# Altium schematic symbol library TLV320AIC34.SchLib: 1 symbol
Pins are listed as number, name and electrical type; pins without a type are passive.

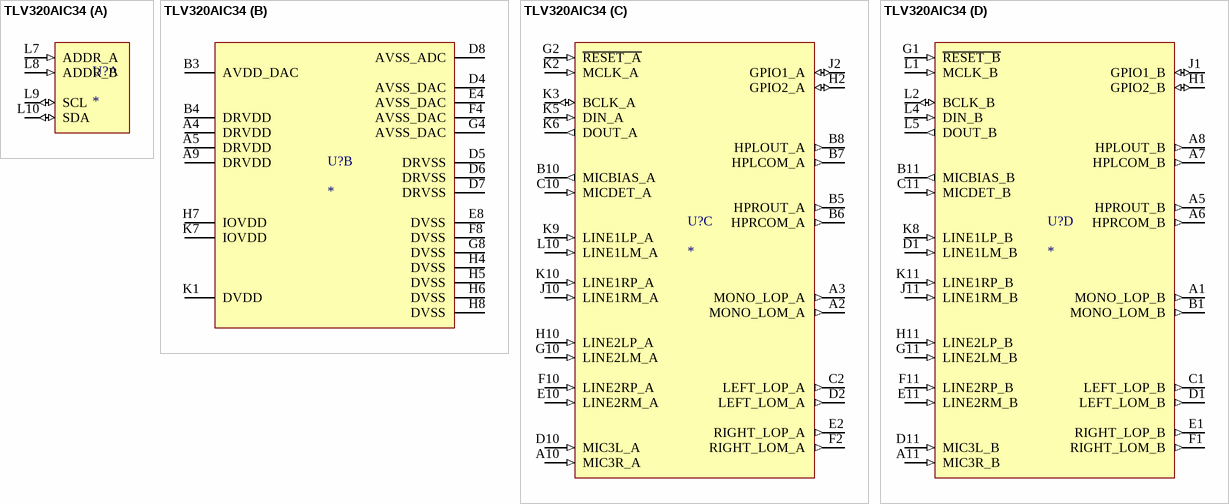
[diagram p0: symbol TLV320AIC34]

## TLV320AIC34
designator U?
TLV320AIC34
part A pins: L7 ADDR_A (in), L8 ADDR_B (in), L9 SCL (io), L10 SDA (io)
part B pins: A4 DRVDD (power), A5 DRVDD (power), A9 DRVDD (power), B3 AVDD_DAC (power), B4 DRVDD (power), D4 AVSS_DAC (power), D5 DRVSS (power), D6 DRVSS (power), D7 DRVSS (power), D8 AVSS_ADC (power), E4 AVSS_DAC (power), E8 DVSS (power), F4 AVSS_DAC (power), F8 DVSS (power), G4 AVSS_DAC (power), G8 DVSS (power), H4 DVSS (power), H5 DVSS (power), H6 DVSS (power), H7 IOVDD (power), H8 DVSS (power), K1 DVDD (power), K7 IOVDD (power)
part C pins: A2 MONO_LOM_A (out), A3 MONO_LOP_A (out), A10 MIC3R_A (in), B5 HPROUT_A (out), B6 HPRCOM_A (out), B7 HPLCOM_A (out), B8 HPLOUT_A (out), B10 MICBIAS_A (out), C2 LEFT_LOP_A (out), C10 MICDET_A (in), D2 LEFT_LOM_A (out), D10 MIC3L_A (in), E2 RIGHT_LOP_A (out), E10 LINE2RM_A (in), F2 RIGHT_LOM_A (out), F10 LINE2RP_A (in), G2 ~{RESET_A} (in), G10 LINE2LM_A (in), H2 GPIO2_A (io), H10 LINE2LP_A (in), J2 GPIO1_A (io), J10 LINE1RM_A (in), K2 MCLK_A (in), K3 BCLK_A (io), K5 DIN_A (in), K6 DOUT_A (out), K9 LINE1LP_A (in), K10 LINE1RP_A (in), L10 LINE1LM_A (in)
part D pins: A1 MONO_LOP_B (out), A5 HPROUT_B (out), A6 HPRCOM_B (out), A7 HPLCOM_B (out), A8 HPLOUT_B (out), A11 MIC3R_B (in), B1 MONO_LOM_B (out), B11 MICBIAS_B (out), C1 LEFT_LOP_B (out), C11 MICDET_B (in), D1 LEFT_LOM_B (out), D1 LINE1LM_B (in), D11 MIC3L_B (in), E1 RIGHT_LOP_B (out), E11 LINE2RM_B (in), F1 RIGHT_LOM_B (out), F11 LINE2RP_B (in), G1 ~{RESET_B} (in), G11 LINE2LM_B (in), H1 GPIO2_B (io), H11 LINE2LP_B (in), J1 GPIO1_B (io), J11 LINE1RM_B (in), K8 LINE1LP_B (in), K11 LINE1RP_B (in), L1 MCLK_B (in), L2 BCLK_B (io), L4 DIN_B (in), L5 DOUT_B (out)